# Altium footprint library 未分类器件.PcbLib: 33 footprints (part 2 of 3)
Each footprint in its own frame and in the unit in brackets; x right, y up, seen from the top. Pads: shape width x height; smd on the part's side, far side on the other; paste and mask are expansions set on the pad; w line width, h text height; cw(c..) or ccw(c..) is an arc to the next point about the centre after c.
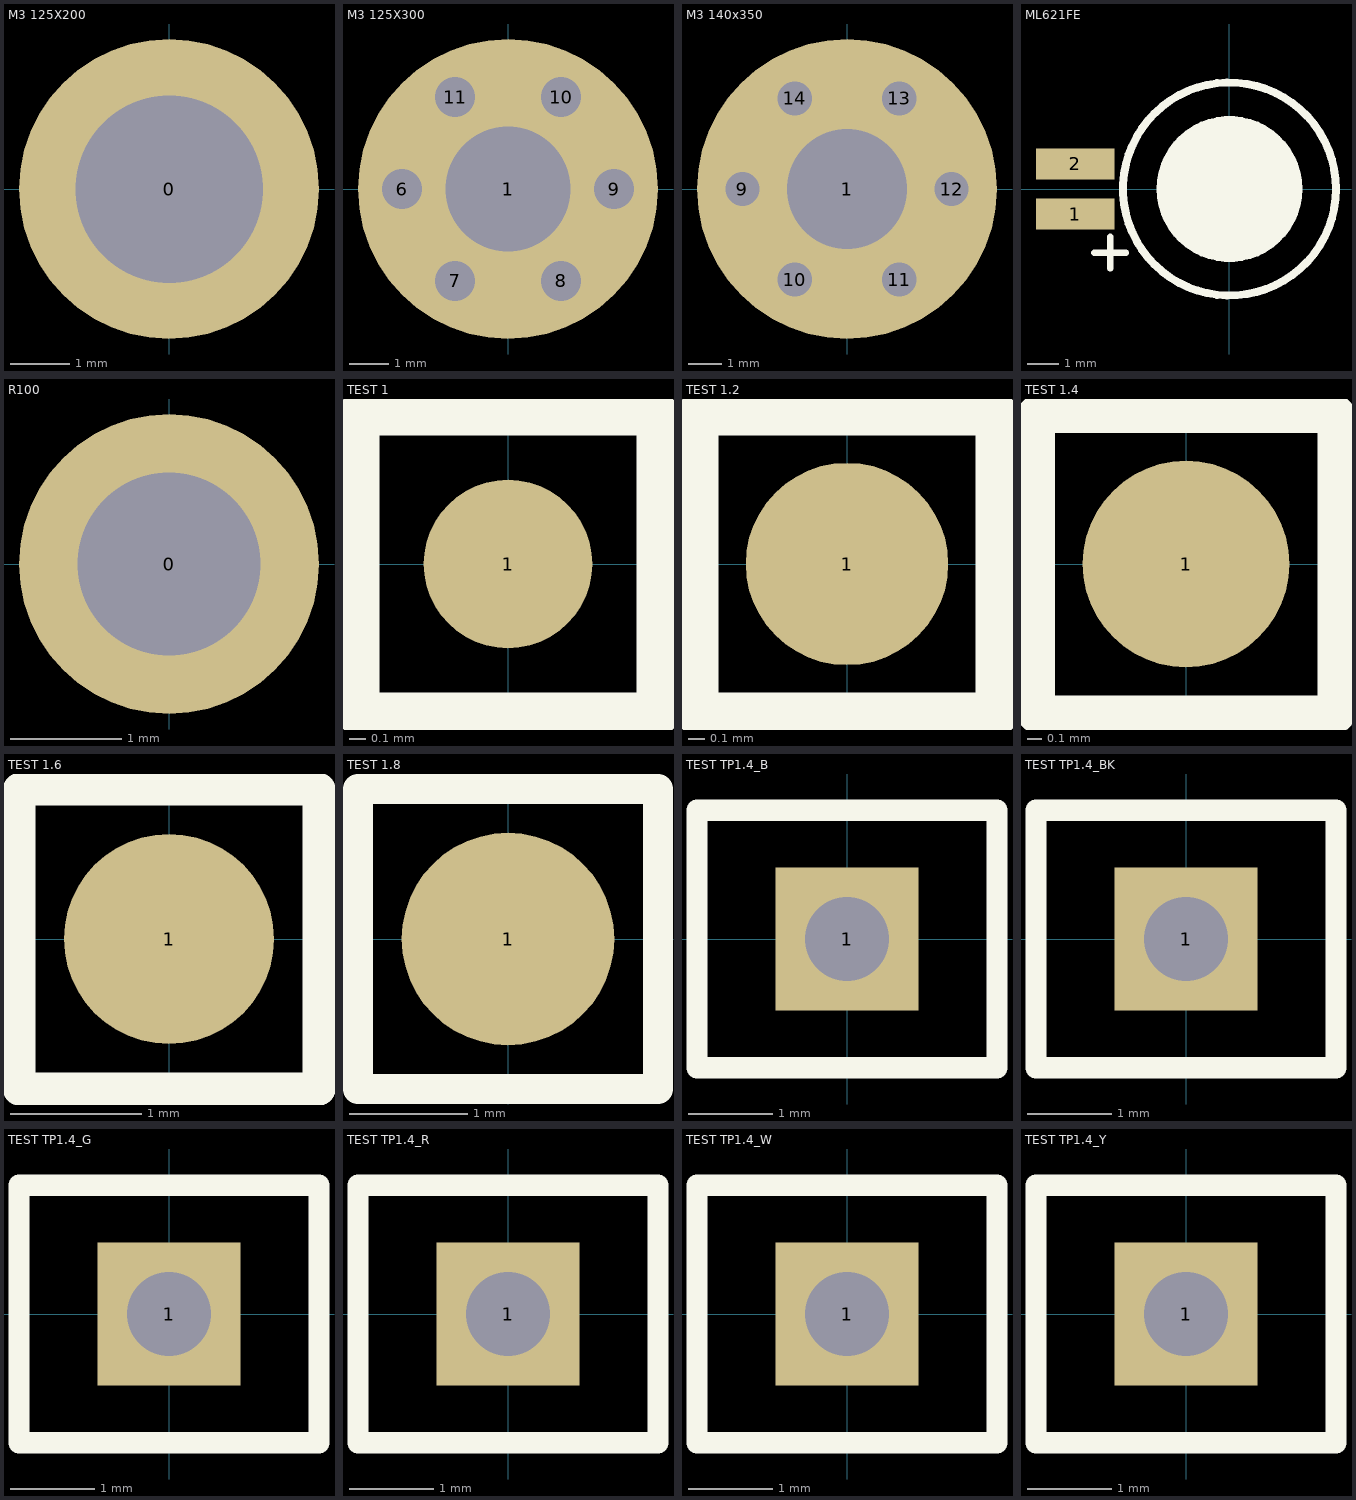
[diagram p1: the footprints below, top view; thin cyan lines are the x and y axes]

## M3 125X200 [mm] "M3螺丝孔，孔125Mil，焊盘200Mil"
pads (1):
  round 5.08 hole 3.175: 0(0,0)

## M3 125X300 [mil] "M3螺丝孔，孔125Mil，焊盘300Mil"
pads (7):
  round 300 hole 125: 1(0,0)
  round 40 hole 40: 6(-106,0) 7(-53,-91.8) 8(53,-91.8) 9(106,0) 10(53,91.8) 11(-53,91.8)

## M3 140x350 [mil] "M3螺丝孔，孔140Mil，焊盘350Mil"
pads (7):
  round 350 hole 140: 1(0,0)
  round 35 hole 40: 9(-122,0) 10(-61,-105.66) 11(61,-105.66) 12(122,0) 13(61,105.66) 14(-61,105.66)

## ML621FE [mm] "可充电纽扣电池"
pads (2):
  rect 2.5x1 smd: 1(-4.927,-0.8) 2(-4.927,0.8)
Top Overlay:
  circle w2.2: c0,0 r1.024
  circle w0.254: c0,0 r2.2
  circle w0.254: c0,0 r3.4
  lines w0.203: -4.318,-2.032 -3.302,-2.032 ; -3.81,-2.54 -3.81,-1.524
Mechanical 15:
  circle w0.05: c0,0 r0.35
  lines w0.05: -0.5,0 0.5,0 ; 0,-0.5 0,0.5
3D body "ML621FE.STEP": height 2.45, standoff 0.04, extent -5.5,-3.398 3.398,3.398

## R100 [mm] "R100探针焊盘"
pads (1):
  round 2.7 hole 1.651: 0(0,0)

## TEST 1 [mm] "测试点1mm"
pads (1):
  round 1 smd: 1(0,0)
Top Overlay:
  lines w0.254: -0.889,-0.889 -0.889,0.889 0.889,0.889 0.889,-0.889 -0.889,-0.889

## TEST 1.2 [mm] "测试点1.2mm"
pads (1):
  round 1.2 smd: 1(0,0)
Top Overlay:
  lines w0.254: -0.889,-0.889 0.889,-0.889 0.889,0.889 -0.889,0.889 -0.889,-0.889

## TEST 1.4 [mm] "测试点1.4mm"
pads (1):
  round 1.4 smd: 1(0,0)
Top Overlay:
  lines w0.254: -1.016,-1.016 1.016,-1.016 1.016,1.016 -1.016,1.016 -1.016,-1.016

## TEST 1.6 [mm] "测试点1.6mm"
pads (1):
  round 1.6 smd: 1(0,0)
Top Overlay:
  lines w0.254: -1.143,-1.143 1.143,-1.143 1.143,1.143 -1.143,1.143 -1.143,-1.143

## TEST 1.8 [mm] "测试点1.8mm"
pads (1):
  round 1.8 smd: 1(0,0)
Top Overlay:
  lines w0.254: -1.27,-1.27 -1.27,1.27 1.27,1.27 1.27,-1.27 -1.27,-1.27

## TEST TP1.4_B [mm] "蓝色，测试环"
pads (1):
  rect 1.7x1.7 hole 1: 1(0,0)
Top Overlay:
  lines w0.254: -1.778,-1.524 -1.778,1.524 1.778,1.524 1.778,-1.524 -1.778,-1.524
3D body "TEST 3.5R_B.STEP": height 5.41, standoff -3.15, extent -1.675,-1.4 1.675,1.4

## TEST TP1.4_BK [mm] "黑色，测试环"
pads (1):
  rect 1.7x1.7 hole 1: 1(0,0)
Top Overlay:
  lines w0.254: -1.778,-1.524 1.778,-1.524 1.778,1.524 -1.778,1.524 -1.778,-1.524
3D body "TEST 3.5R_BK.STEP": height 5.41, standoff -3.15, extent -1.675,-1.4 1.675,1.4

## TEST TP1.4_G [mm] "绿色，测试环"
pads (1):
  rect 1.7x1.7 hole 1: 1(0,0)
Top Overlay:
  lines w0.254: -1.778,-1.524 -1.778,1.524 1.778,1.524 1.778,-1.524 -1.778,-1.524
3D body "TEST 3.5R_G.STEP": height 5.41, standoff -3.15, extent -1.675,-1.4 1.675,1.4

## TEST TP1.4_R [mm] "红色，测试环"
pads (1):
  rect 1.7x1.7 hole 1: 1(0,0)
Top Overlay:
  lines w0.254: -1.778,-1.524 -1.778,1.524 1.778,1.524 1.778,-1.524 -1.778,-1.524
3D body "TEST 3.5R_R.STEP": height 5.41, standoff -3.15, extent -1.675,-1.4 1.675,1.4

## TEST TP1.4_W [mm] "白色，测试环"
pads (1):
  rect 1.7x1.7 hole 1: 1(0,0)
Top Overlay:
  lines w0.254: -1.778,-1.524 1.778,-1.524 1.778,1.524 -1.778,1.524 -1.778,-1.524
3D body "TEST 3.5R_W.STEP": height 5.41, standoff -3.15, extent -1.675,-1.4 1.675,1.4

## TEST TP1.4_Y [mm] "黄色，测试环"
pads (1):
  rect 1.7x1.7 hole 1: 1(0,0)
Top Overlay:
  lines w0.254: -1.778,-1.524 -1.778,1.524 1.778,1.524 1.778,-1.524 -1.778,-1.524
3D body "TEST 3.5R_Y.STEP": height 5.41, standoff -3.15, extent -1.675,-1.4 1.675,1.4